# Altium integrated library Alex_Variuos.IntLib: 21 symbols
Pins are listed as number, name and electrical type; pins without a type are passive.

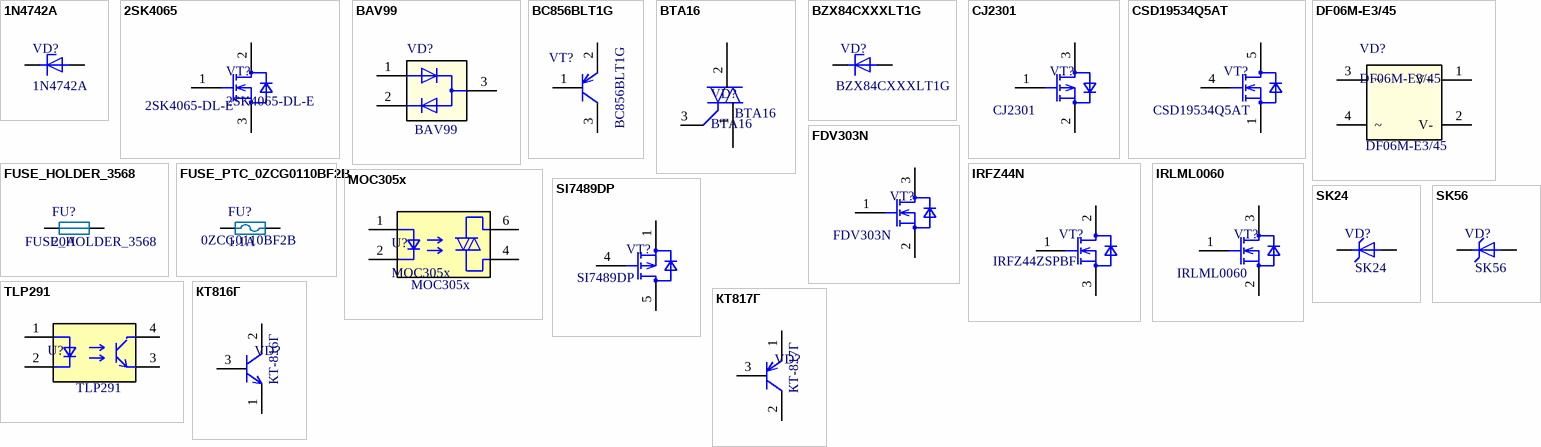
[diagram p0: symbols 1N4742A to КТ817Г]

## 1N4742A
designator VD?
Стабилитрон 1N4742A / 12В, 1Вт; Manufacturer: Fairchild Semiconductor; Package: DO-41; Price: 0,14; Documentation: https://belchip.by/sitedocs/1n4700.pdf; ShoppingPlace: https://www.chipdip.by/product/sk56; Power: 12В, 1Вт; Quantity: 1; Value: 1N4742A; Part Number: 1N4742A
footprint DO-41
pins: 1, 2

## 2SK4065
designator VT?, comment 2SK4065-DL-E
N-Channel 75V 100A (Ta) 1.65W (Ta), 90W (Tc) Surface Mount SMP-FD; Manufacturer: ON Semiconductor; Type: VT; ValueDesc: Полевой  транзистор 2SK4065-DL-E  TO-263-3  75V 100A  ON Semiconductor; Price: 1; ShoppingPlace: https://ru.aliexpress.com/item/33037327630.html?storeId=1708552; Documentation: https://www.onsemi.com/pub/Collateral/2SK4065-D.PDF; Value: 2SK4065-DL-E; Power: 75V 100A; Package: TO-263-3; ComponentLink1Description: ON Semiconductor; ComponentLink1URL: https://www.onsemi.com/pub/Collateral/2SK4065-D.PDF; Part Number: 2SK4065-DL-E
footprint TO-263-2L (10mm x  13.4mm x4.5mm)
pins: 1 G "Base", 2 D "Collector", 3 E "Ground"

## BAV99
designator VD?  PartNumber: BAV99
BAV99.215 / 0.15А, 100В, SOT-23; Manufacturer: NXP; Type: VD; ValueDesc: Диодная сборка BAV99 TSOT23-3 NXP; Price: 0,025; ShoppingPlace: https://belchip.by/product/?selected_product=05228; Documentation: https://belchip.by/sitedocs/bav99.pdf; Value: 0.15А, 100В; Power: 0.15А, 100В; Tolerance: 0.15А, 100В; Package: TSOT23-3
footprint TSOT23-3(TO-236AB)
pins: 1, 2, 3

## BC856BLT1G
designator VT?  value BC856BLT1G
BIPOLAR TRANS PNP 65V 0.1A SOT23; ValueManufacturer: ON Semiconductor; PowerVoltage: 65В 100мА; ValueDescription: BC856BLT1G Транзистор биполярный PNP 65В 100мА  SOT-23-3 TO-236-3; ValueType: PNP Transistor; Price: 0.12; ComponentLink1Description: ON Semiconductor Datasheet; ComponentLink1URL: http://www.onsemi.ru.com/pub_link/Collateral/MMBT5550LT1-D.PDF; Package: SOT-23-3 TO-236-3; ValueManufacturerPartNumber: BC856BLT1G; Operating Temperature: -55°C ~ 150°C (TJ); CheckDate: SC *
footprint TSOT23-3-1.4X3-0.95 (SOT23, 3-Leads, Body 3x1.4 mm, Pitch 0.95mm,)
pins: 1 B "Base", 2 E "Emiter", 3 C "Collector"

## BTA16
designator VD?
TRIAC 16A 600V; Manufacturer: ON SEMICONDUCTOR; Value: 50mA; Type: VD; Price: 2; Documentation: http://www.farnell.com/datasheets/1708247.pdf; Power: 16A; Package: TO-220AB; Part Number: BTA16
footprint TO-220AB_SP
pins: 1 MT1, 2 MT2, 3 G

## BZX84CXXXLT1G
designator VD?
Zener Diode X.XV XXXmW ±5% Surface Mount SOT-23-3 (TO-236); Manufacturer: ON Semiconductor; Power: 9.1В, 225mВт; Type: Zenner; ValueDesc: Стабилитрон BZX84CXXXLT1G  SOT-23-3  9.1В, 225mВт  ON Semiconductor; Package: SOT-23-3; Price: 0,14; Documentation: https://www.onsemi.com/pub/Collateral/BZX84C2V4LT1-D.PDF; ShoppingPlace: https://www.digikey.com/product-detail/en/on-semiconductor/BZX84C9V1LT1G/BZX84C9V1LT1GOSDKR-ND/1831785; Quantity: 1; Part Number: BZX84CXXXLT1G; ComponentLink1Description: ON Semiconductor; ComponentLink1URL: https://www.onsemi.com/pub/Collateral/BZX84C2V4LT1-D.PDF; Value: BZX84CXXXLT1G
footprint TSOT23-3(TO-236AB)
pins: 1, 3

## CJ2301
designator VT?
CJ2301 / P-channel, SOT-23, 2.3А, 20В; Manufacturer: JCST; Power: 0.35W; Type: VT; Price: 0,1; ShoppingPlace: https://belchip.by/product/?selected_product=14582; Documentation: https://belchip.by/sitedocs/00014582.pdf; Value: 2.3А, 20В; Package: SOT-23; ComponentLink1Description: JCST; ComponentLink1URL: https://belchip.by/sitedocs/00014582.pdf; ValueDesc: =P-канальный 'PartNumber'+'Package'+'Manufacturer'; Part Number: CJ2301
footprint TSOT23-3(TO-236AB)
pins: 1 B "Base", 2 E "Ground", 3 C "Collector"

## CSD19534Q5AT
designator VT?
MOSFET N-Channel 100V 50A 8-VSON (5x6); Manufacturer: Texas Instruments; Power: 50A,100V; Tolerance: 1680pF @ 50V; Type: VT; ValueDesc: Полевой  транзистор CSD19534Q5AT  8-PowerTDFN  50A,100V  Texas Instruments; Price: 1,32; ShoppingPlace: https://www.digikey.com/product-detail/en/texas-instruments/CSD19534Q5AT/296-37838-2-ND/4876343; Documentation: http://www.ti.com/lit/ds/symlink/csd19534q5a.pdf; Value: CSD19534Q5AT; Package: 8-PowerTDFN; Part Number: CSD19534Q5AT
footprint PVSON-8-5X6-T (TDSON, 8-Leads, Body 6x5mm, Pitch 1.27mm)
pins: 1 S "Source", 4 G "Gate", 5 D "Drain"

## DF06M-E3/45
designator VD?
Bridge Rectifiers 1.0 Amp 600 Volt; Manufacturer: Vishay Semiconductors; Value: 1А, 600В; Type: VD; Price: 0,34; ShoppingPlace: https://www.chipdip.by/product/df06m-vishay; Documentation: https://ru.mouser.com/datasheet/2/427/dfm-240334.pdf; Power: 1А, 600В; Tolerance: 1А, 600В; Package: DFM; ComponentLink1Description: Vishay Semiconductors; ComponentLink1URL: https://ru.mouser.com/datasheet/2/427/dfm-240334.pdf; Part Number: DF06M-E3/45
footprint DFM06 (8.51 mmx6.5mmx3.3mm)
pins: 1 V+, 2 V-, 3 ~, 4 ~

## FDV303N
designator VT?
Транзистор полевой FDV303N / N-канал, SOT-23, 0.68А, 25В; Manufacturer: FairdChild; Type: VT; ValueDesc: Полевой n-канальный FDV303N  SOT-23  0.68А, 25В  FairdChild; Price: 0,08; ShoppingPlace: https://belchip.by/product/?selected_product=06190; Documentation: https://belchip.by/sitedocs/06190.pdf; Value: FDV303N; Power: 0.68А, 25В; Package: SOT-23; Quantity: 1; ComponentLink1Description: FairdChild datasheet; ComponentLink1URL: https://belchip.by/sitedocs/06190.pdf; Part Number: FDV303N
footprint TSOT23-3(TO-236AB)
pins: 1 B "Base", 2 E "Ground", 3 C "Collector"

## FUSE_HOLDER_3568
designator FU?, comment 20A  Part Number: FUSE_HOLDER_3568
FUSE HOLDER BLADE 500V MAX 20A PCB; Manufacturer: Keystone Electronics; Power: 500V 20A; Tolerance: -40°C ~ 85°C; Price: 0,98; ShoppingPlace: https://www.digikey.com/product-detail/en/keystone-electronics/3568/36-3568-ND/2137306; Value: 20A; Type: FU; Package: 0.43" L x 0.15" W x 0.347" H (10.92mm x 3.81mm x 8.81mm)
footprint FUSE_3568 (Fuse 3568 (16x6.73x7.37))
pins: 1, 2

## FUSE_PTC_0ZCG0110BF2B
designator FU?, comment 1.1A  Part Number: 0ZCG0110BF2B
MOSFET N-Channel 100V 50A 8-VSON (5x6); Manufacturer: Bel Fuse Inc.; Power: 100A; Tolerance: -40°C ~ 85°C; Price: 0,097; ShoppingPlace: https://www.digikey.com/product-detail/en/bel-fuse-inc/0ZCG0110BF2B/507-1768-2-ND/4156105; Documentation: https://www.belfuse.com/resources/CircuitProtection/datasheets/0ZCG%20Nov2016.pdf; Value: 1.1A; Type: VT; Package: 1812 (4532 Metric), Concave
footprint PTC1812 (PTC RESTTBLE  1812 (4532 Metric (4.55mm x 3.24mm))
pins: 1, 2

## IRFZ44N
designator VT?, comment IRFZ44ZSPBF
MOSFET N-CH 55V 49A TO-220AB; Manufacturer: Infinion; Power: 49A,55V; Tolerance: 1470pF @ 25V; Type: VT; ValueDesc: Полевой  транзистор IRFZ44ZSPBF  TO-220AB  49A,55V  Infinion; Price: 1,32; ShoppingPlace: https://www.digikey.com/product-detail/en/infineon-technologies/IRFZ44NPBF/IRFZ44NPBF-ND/811772; Documentation: https://www.infineon.com/dgdl/irfz44npbf.pdf?fileId=5546d462533600a40153563b3a9f220d; Value: IRFZ44ZSPBF; Package: TO-220AB; Part Number: IRFZ44ZSPBF
footprint TO-220AB (3.1mmx3.1mmx1mm)
footprint TO-263-2L (10mm x  13.4mm x4.5mm)
pins: 1 G "Gate", 2 D "Drain", 3 S "Source"

## IRLML0060
designator VT?
N-Channel 60V 2.7A (Ta) 1.25W (Ta) Surface Mount Micro3™/SOT-23; Manufacturer: Texas Instruments; Type: VT; ValueDesc: Полевой n-канальный IRLML0060  SOT-23  60V 2.7A  Texas Instruments; Price: 0,11; ShoppingPlace: https://www.digikey.com/product-detail/en/texas-instruments/CSD19534Q5AT/296-37838-2-ND/4876343; Documentation: http://www.ti.com/lit/ds/symlink/csd19534q5a.pdf; Value: IRLML0060; Power: 60V 2.7A; Package: SOT-23; Quantity: 1; ComponentLink1Description: Texas Instruments datasheet; ComponentLink1URL: http://www.ti.com/lit/ds/symlink/csd19534q5a.pdf; Part Number: IRLML0060
footprint TSOT23-3(TO-236AB)
pins: 1 B "Base", 2 E "Ground", 3 C "Collector"

## MOC305x
designator U?
Optocooper Vdrm:600V,1 A,50mA; Manufacturer: LiteON; Power: 1A; Documentation: https://optoelectronics.liteon.com/upload/download/DS70-2001-025/MOC305X%20series%20201606.pdf; Value: 50mA; Type: U; Package: 8-dip; Part Number: MOC305x
footprint 6-DIP
pins: 1 +control "Current input", 2 -control "Current output", 4 load "Current output", 6 load "Current input"

## SI7489DP
designator VT?
P-Channel 100V 28A (Tc) 5.2W (Ta), 83W (Tc) Surface Mount PowerPAK® SO-8; Manufacturer: Vishay Siliconix; Power: 50A,100V; Tolerance: 160nC @ 10V; Type: VT; ValueDesc: Полевой  транзистор SI7489DP  PPAK SO-8  50A,100V  Vishay Siliconix; Price: 2.61; ShoppingPlace: https://www.digikey.com/product-detail/en/vishay-siliconix/SI7489DP-T1-E3/SI7489DP-T1-E3CT-ND/1657135; Documentation: http://www.vishay.com/docs/73436/si7489dp.pdf; Value: SI7489DP; Package: PPAK SO-8; ComponentLink1Description: Vishay Datasheet; ComponentLink1URL: http://www.vishay.com/docs/73436/si7489dp.pdf; Part Number: SI7489DP
footprint PVSON-8-5X6-T (TDSON, 8-Leads, Body 6x5mm, Pitch 1.27mm)
pins: 1 S "Source", 4 G "Gate", 5 D "Drain"

## SK24
designator VD?
Диод Шоттки 2А 40В [SMB]; Manufacturer: Diotec Semiconductor; Power: 2A,40V; Package: SMB; Price: 0,11; Documentation: https://belchip.by/sitedocs/28813.pdf; ShoppingPlace: https://belchip.by/product/?selected_product=28813; Quantity: 1; Value: SK24; Tolerance: 2A,40V; ComponentLink1Description: DOITEC SEMICONDUCTOR; ComponentLink1URL: https://belchip.by/sitedocs/28813.pdf; DateAdd: 20.07.2019; ValueDesc: =Диод Шоттки+' '+Part Number+' '+Power+' '+Package; Part Number: SK24
footprint DO-214AA (SMB / DO-214AA)
pins: 1, 2

## SK56
designator VD?
Диод Шоттки 5А 60В [SMB / DO-214AA]; Manufacturer: Diotec Semiconductor; Power: 5A,60V; ValueDesc: Диод Шоттки SK56  DO-214AA  5A,60V  Diotec Semiconductor; Package: DO-214AA; Price: 0,14; Documentation: https://static.chipdip.ru/lib/057/DOC000057299.pdf; ShoppingPlace: https://www.chipdip.by/product/sk56; Quantity: 1; Value: SK56; Part Number: SK56
footprint DO-214AA (SMB / DO-214AA)
pins: 1, 2

## TLP291
designator U?
Optoisolator Transistor Output 3750Vrms 1 Channel 4-SO; Manufacturer: Toshiba Semiconductor and Storage; Power: 50A,80V,1.25V; ValueDesc: Оптопара TLP291  4-SOIC (0.179", 4.55mm Width)  50A,80V,1.25V  Toshiba Semiconductor and Storage; Price: 0.45; ShoppingPlace: https://www.digikey.com/product-detail/en/toshiba-semiconductor-and-storage/TLP291-GB-TPSE/TLP291-GB-TPSECT-ND/4562949; Documentation: https://optoelectronics.liteon.com/upload/download/DS70-2001-025/MOC305X%20series%20201606.pdf; Value: TLP291; Type: optocooper; Package: 4-SOIC (0.179", 4.55mm Width); ComponentLink1Description: Toshiba Semiconductor and Storage; ComponentLink1URL: https://toshiba.semicon-storage.com/info/docget.jsp?did=14152&prodName=TLP291(SE; Quantity: 1; Part Number: TLP291
footprint 4-SO (0.179", 4.55mm Width)
pins: 1 +control "Current input", 2 -control "Current output", 3, 4

## КТ816Г
designator VD?, comment КТ-816Г
КТ816Г, Биполярный транзистор, PNP, 100В, 3А, 25Вт, 3МГц [КТ-27 / TO-126] (=BD238); Manufacturer: INTEGRAL; Power: 3A,100V; Tolerance: p-n-p; Package: КТ-27; Price: 0,255; Documentation: https://static.chipdip.ru/lib/005/DOC003005092.pdf; ShoppingPlace: https://www.chipdip.by/product/kt816g-2?from=suggest_product; Quantity: 1; Value: КТ-816Г; ComponentLink1Description: INTEGRAL; ComponentLink1URL: https://static.chipdip.ru/lib/005/DOC003005092.pdf; DateAdd: 21.07.2019; ValueDesc: =Транзистор+' '+Part Number+' '+Power+' '+Package; Part Number: КТ-816Г
footprint TO-126
pins: 1 E "Emiter", 2 C "Collector", 3 B "Base"

## КТ817Г
designator VD?, comment КТ-817Г
КТ817Г, Биполярный транзистор, NPN, 100В, 3А, 10Вт, 3МГц [КТ-27 / TO-126] (=BD237); Manufacturer: INTEGRAL; Power: 3A,100V; Value: КТ-816Г; Tolerance: n-p-n; Package: КТ-27; Price: 0,255; Documentation: https://static.chipdip.ru/lib/005/DOC003005094.pdf; ShoppingPlace: https://www.chipdip.by/product/kt816g-2?from=suggest_product; Quantity: 1; ComponentLink1Description: INTEGRAL; ComponentLink1URL: https://static.chipdip.ru/lib/005/DOC003005092.pdf; DateAdd: 21.07.2019; ValueDesc: =Транзистор+' '+Part Number+' '+Power+' '+Package; Part Number: КТ-817Г
footprint TO-126
pins: 1 E "Emiter", 2 C "Collector", 3 B "Base"